# Altium footprint library Relais.PcbLib: 2 footprints
Each footprint in its own frame and in the unit in brackets; x right, y up, seen from the top. Pads: shape width x height; smd on the part's side, far side on the other; paste and mask are expansions set on the pad; w line width, h text height; cw(c..) or ccw(c..) is an arc to the next point about the centre after c.
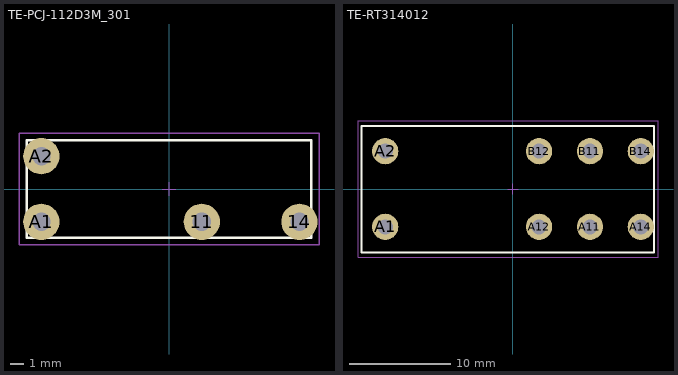
[diagram p0: the footprints below, top view; thin cyan lines are the x and y axes]

## TE-PCJ-112D3M_301 [mm] "Miniature PCB Relay PCJ"
height 15
pads (4):
  round 2.6 hole 1.3: 11(2.35,-2.35) 14(9.35,-2.35) A1(-9.15,-2.35) A2(-9.15,2.35)
Top Overlay:
  lines w0.2: -10.2,-3.5 -10.2,3.5 10.2,3.5 10.2,-3.5 -10.2,-3.5
Mechanical 13:
  lines w0.1: -10.2,-3.5 -10.2,3.5 10.2,3.5 10.2,-3.5 -10.2,-3.5
  text ".Designator" at 1.75,1.25 h0.9
Mechanical 15:
  lines w0.05: -0.5,0 0.5,0 ; 0,-0.5 0,0.5
  lines w0.1: -10.75,-4 10.75,-4 10.75,4 -10.75,4 -10.75,-4
3D body "c-1721081-5-f-3d.stp": height 15, standoff -3.4, extent -10.2,-3.5 10.2,3.5

## TE-RT314012 [mm] "Power PCB Relay RT1 16A 5MM"
height 16.2
pads (8):
  round 2.6 hole 1.5: A1(-12.67,-3.75) A2(-12.67,3.75) A11(7.63,-3.75) A12(2.59,-3.75) A14(12.67,-3.75) B11(7.63,3.75) B12(2.59,3.75) B14(12.67,3.75)
Top Overlay:
  lines w0.2: -15.025,-6.275 13.98,-6.275 13.98,6.25 -15.025,6.25 -15.025,-6.275
Mechanical 13:
  lines w0.1: -15.02,-6.275 13.98,-6.275 13.98,6.275 -15.02,6.275 -15.02,-6.275
  text ".Designator" at 1.75,0.25 h0.9
Mechanical 15:
  lines w0.05: -0.5,0 0.5,0 ; 0,-0.5 0,0.5
  lines w0.1: -15.37,-6.75 -15.37,6.75 14.38,6.75 14.38,-6.75 -15.37,-6.75
3D body "c-9-1393239-5-c-3d.stp": height 15.7, standoff -3.6, extent -15.02,-6.35 13.98,6.35